# EAGLE library part MAX1672 (library voltreg)
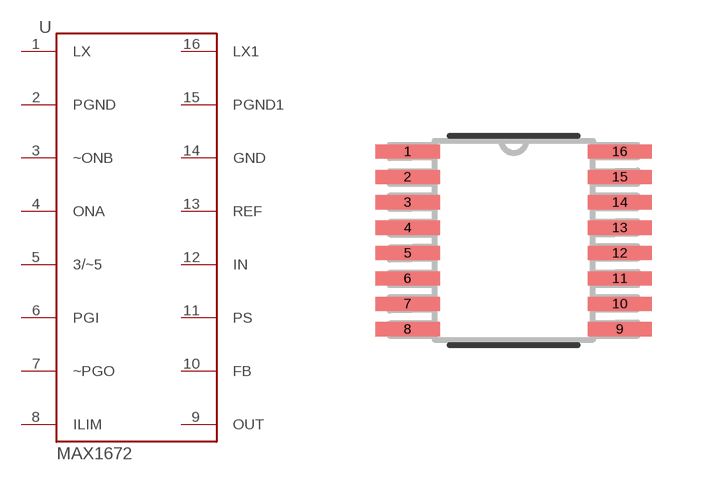
[diagram p0: symbol with the pads of 21-0055H_16; footprint 21-0055H_16]

Designator prefix -

## MAX1672'MAX1672'  [21-0055H_16]
1  LX
2  PGND
3  ~ONB
4  ONA
5  3/~5
6  PGI
7  ~PGO
8  ILIM
9  OUT
10  FB
11  PS
12  IN
13  REF
14  GND
15  PGND1
16  LX1

## Footprint 21-0055H_16 (pad centres in mm)
smd 1.6 x 0.356: 1 -2.654,2.223; 2 -2.654,1.587; 3 -2.654,0.953; 4 -2.654,0.318; 5 -2.654,-0.318; 6 -2.654,-0.953; 7 -2.654,-1.587; 8 -2.654,-2.223; 9 2.654,-2.223; 10 2.654,-1.587; 11 2.654,-0.953; 12 2.654,-0.318; 13 2.654,0.318; 14 2.654,0.953; 15 2.654,1.587; 16 2.654,2.223